# EAGLE library part T13F256C3 (library ICs)
Trion® Field Programmable Gate Array (FPGA) IC 195 744489 12828 256-TFBGA
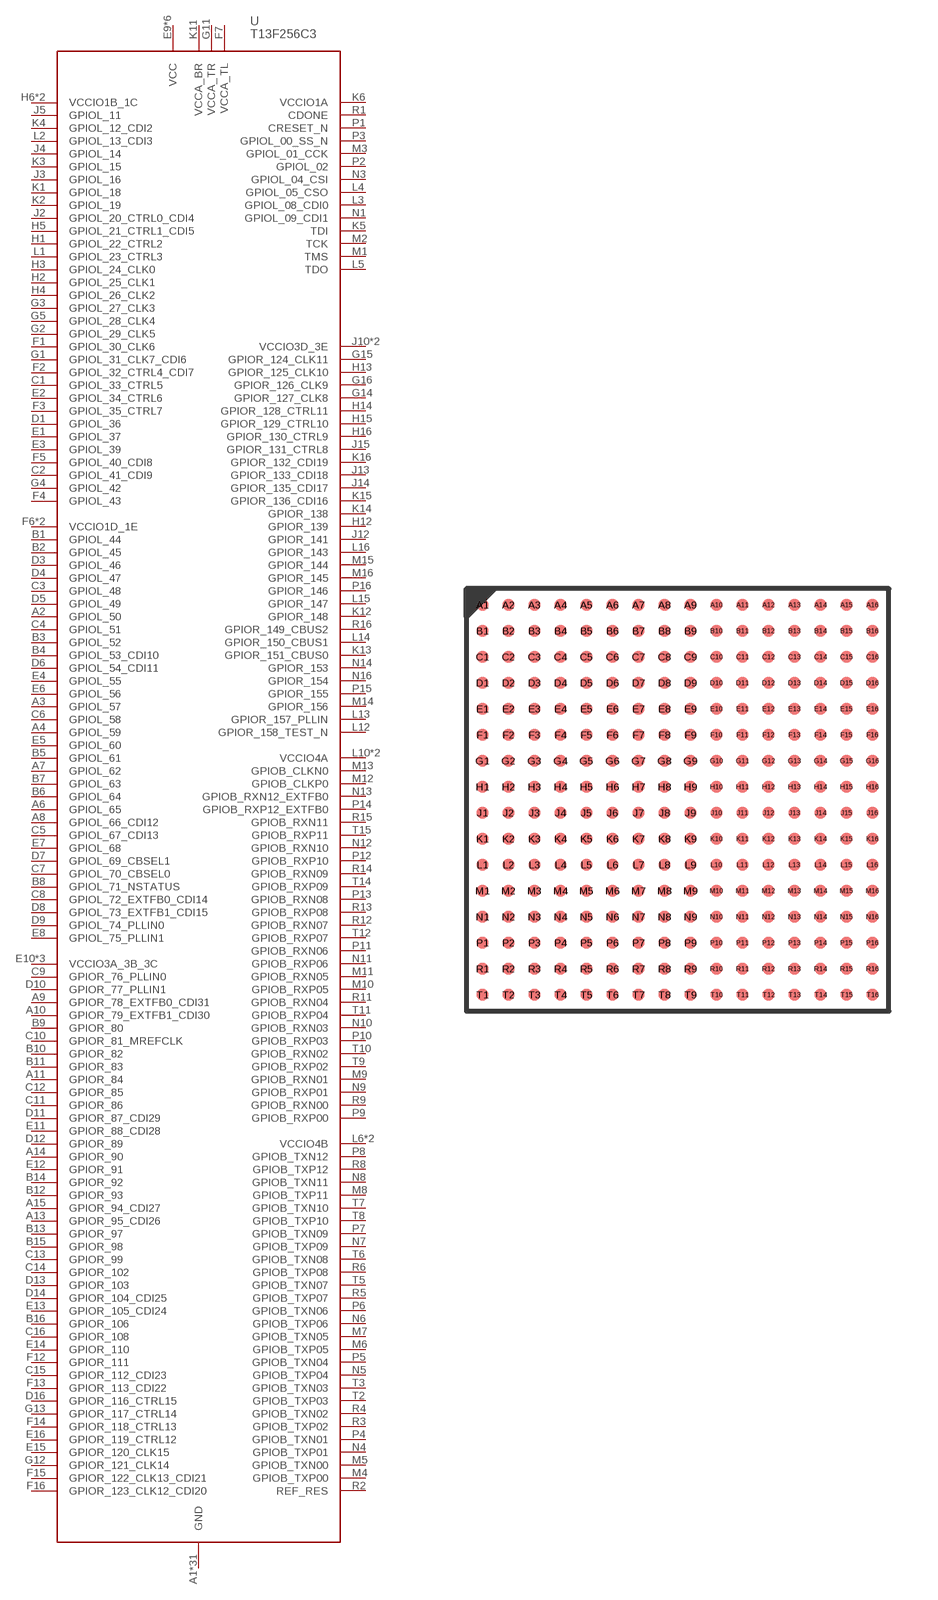
[diagram p323: symbol with the pads of FBGA256; footprint FBGA256]

Designator prefix U

## T13F256C3 (DIGIKEY: 2134-T13F256C3-ND; HEIGHT: 1.2; PRICE_PER: 5.39; VALUE: T13F256C3)  [FBGA256]
A1  GND
A2  GPIOL_50
A3  GPIOL_57
A4  GPIOL_59
A5  GND
A6  GPIOL_65
A7  GPIOL_62
A8  GPIOL_66_CDI12
A9  GPIOR_78_EXTFB0_CDI31
A10  GPIOR_79_EXTFB1_CDI30
A11  GPIOR_84
A12  GND
A13  GPIOR_95_CDI26
A14  GPIOR_90
A15  GPIOR_94_CDI27
A16  GND
B1  GPIOL_44
B2  GPIOL_45
B3  GPIOL_52
B4  GPIOL_53_CDI10
B5  GPIOL_61
B6  GPIOL_64
B7  GPIOL_63
B8  GPIOL_71_NSTATUS
B9  GPIOR_80
B10  GPIOR_82
B11  GPIOR_83
B12  GPIOR_93
B13  GPIOR_97
B14  GPIOR_92
B15  GPIOR_98
B16  GPIOR_106
C1  GPIOL_33_CTRL5
C2  GPIOL_41_CDI9
C3  GPIOL_48
C4  GPIOL_51
C5  GPIOL_67_CDI13
C6  GPIOL_58
C7  GPIOL_70_CBSEL0
C8  GPIOL_72_EXTFB0_CDI14
C9  GPIOR_76_PLLIN0
C10  GPIOR_81_MREFCLK
C11  GPIOR_86
C12  GPIOR_85
C13  GPIOR_99
C14  GPIOR_102
C15  GPIOR_112_CDI23
C16  GPIOR_108
D1  GPIOL_36
D2  GND
D3  GPIOL_46
D4  GPIOL_47
D5  GPIOL_49
D6  GPIOL_54_CDI11
D7  GPIOL_69_CBSEL1
D8  GPIOL_73_EXTFB1_CDI15
D9  GPIOL_74_PLLIN0
D10  GPIOR_77_PLLIN1
D11  GPIOR_87_CDI29
D12  GPIOR_89
D13  GPIOR_103
D14  GPIOR_104_CDI25
D15  GND
D16  GPIOR_116_CTRL15
E1  GPIOL_37
E2  GPIOL_34_CTRL6
E3  GPIOL_39
E4  GPIOL_55
E5  GPIOL_60
E6  GPIOL_56
E7  GPIOL_68
E8  GPIOL_75_PLLIN1
E9  VCC
E10  VCCIO3A_3B_3C
E11  GPIOR_88_CDI28
E12  GPIOR_91
E13  GPIOR_105_CDI24
E14  GPIOR_110
E15  GPIOR_120_CLK15
E16  GPIOR_119_CTRL12
F1  GPIOL_30_CLK6
F2  GPIOL_32_CTRL4_CDI7
F3  GPIOL_35_CTRL7
F4  GPIOL_43
F5  GPIOL_40_CDI8
F6  VCCIO1D_1E
F7  VCCA_TL
F8  VCC
F9  VCC
F10  VCCIO3A_3B_3C
F11  VCCIO3A_3B_3C
F12  GPIOR_111
F13  GPIOR_113_CDI22
F14  GPIOR_118_CTRL13
F15  GPIOR_122_CLK13_CDI21
F16  GPIOR_123_CLK12_CDI20
G1  GPIOL_31_CLK7_CDI6
G2  GPIOL_29_CLK5
G3  GPIOL_27_CLK3
G4  GPIOL_42
G5  GPIOL_28_CLK4
G6  VCCIO1D_1E
G7  GND
G8  GND
G9  GND
G10  GND
G11  VCCA_TR
G12  GPIOR_121_CLK14
G13  GPIOR_117_CTRL14
G14  GPIOR_127_CLK8
G15  GPIOR_124_CLK11
G16  GPIOR_126_CLK9
H1  GPIOL_22_CTRL2
H2  GPIOL_25_CLK1
H3  GPIOL_24_CLK0
H4  GPIOL_26_CLK2
H5  GPIOL_21_CTRL1_CDI5
H6  VCCIO1B_1C
H7  VCCIO1B_1C
H8  GND
H9  GND
H10  GND
H11  GND
H12  GPIOR_139
H13  GPIOR_125_CLK10
H14  GPIOR_128_CTRL11
H15  GPIOR_129_CTRL10
H16  GPIOR_130_CTRL9
J1  GND
J2  GPIOL_20_CTRL0_CDI4
J3  GPIOL_16
J4  GPIOL_14
J5  GPIOL_11
J6  VCC
J7  VCC
J8  GND
J9  GND
J10  VCCIO3D_3E
J11  VCCIO3D_3E
J12  GPIOR_141
J13  GPIOR_133_CDI18
J14  GPIOR_135_CDI17
J15  GPIOR_131_CTRL8
J16  GND
K1  GPIOL_18
K2  GPIOL_19
K3  GPIOL_15
K4  GPIOL_12_CDI2
K5  TDI
K6  VCCIO1A
K7  GND
K8  GND
K9  VCC
K10  GND
K11  VCCA_BR
K12  GPIOR_148
K13  GPIOR_151_CBUS0
K14  GPIOR_138
K15  GPIOR_136_CDI16
K16  GPIOR_132_CDI19
L1  GPIOL_23_CTRL3
L2  GPIOL_13_CDI3
L3  GPIOL_08_CDI0
L4  GPIOL_05_CSO
L5  TDO
L6  VCCIO4B
L7  VCCIO4B
L8  GND
L9  GND
L10  VCCIO4A
L11  VCCIO4A
L12  GPIOR_158_TEST_N
L13  GPIOR_157_PLLIN
L14  GPIOR_150_CBUS1
L15  GPIOR_147
L16  GPIOR_143
M1  TMS
M2  TCK
M3  GPIOL_01_CCK
M4  GPIOB_TXP00
M5  GPIOB_TXN00
M6  GPIOB_TXP05
M7  GPIOB_TXN05
M8  GPIOB_TXP11
M9  GPIOB_RXN01
M10  GPIOB_RXP05
M11  GPIOB_RXN05
M12  GPIOB_CLKP0
M13  GPIOB_CLKN0
M14  GPIOR_156
M15  GPIOR_144
M16  GPIOR_145
N1  GPIOL_09_CDI1
N2  GND
N3  GPIOL_04_CSI
N4  GPIOB_TXP01
N5  GPIOB_TXP04
N6  GPIOB_TXP06
N7  GPIOB_TXP09
N8  GPIOB_TXN11
N9  GPIOB_RXP01
N10  GPIOB_RXN03
N11  GPIOB_RXP06
N12  GPIOB_RXN10
N13  GPIOB_RXN12_EXTFB0
N14  GPIOR_153
N15  GND
N16  GPIOR_154
P1  CRESET_N
P2  GPIOL_02
P3  GPIOL_00_SS_N
P4  GPIOB_TXN01
P5  GPIOB_TXN04
P6  GPIOB_TXN06
P7  GPIOB_TXN09
P8  GPIOB_TXN12
P9  GPIOB_RXP00
P10  GPIOB_RXP03
P11  GPIOB_RXN06
P12  GPIOB_RXP10
P13  GPIOB_RXN08
P14  GPIOB_RXP12_EXTFB0
P15  GPIOR_155
P16  GPIOR_146
R1  CDONE
R2  REF_RES
R3  GPIOB_TXP02
R4  GPIOB_TXN02
R5  GPIOB_TXP07
R6  GPIOB_TXP08
R7  GND
R8  GPIOB_TXP12
R9  GPIOB_RXN00
R10  GND
R11  GPIOB_RXN04
R12  GPIOB_RXN07
R13  GPIOB_RXP08
R14  GPIOB_RXN09
R15  GPIOB_RXN11
R16  GPIOR_149_CBUS2
T1  GND
T2  GPIOB_TXP03
T3  GPIOB_TXN03
T4  GND
T5  GPIOB_TXN07
T6  GPIOB_TXN08
T7  GPIOB_TXN10
T8  GPIOB_TXP10
T9  GPIOB_RXP02
T10  GPIOB_RXN02
T11  GPIOB_RXP04
T12  GPIOB_RXP07
T13  GND
T14  GPIOB_RXP09
T15  GPIOB_RXP11
T16  GND

## Footprint FBGA256 (pad centres in mm)
smd 0.35 x 0.35: A1 -6,6; A2 -5.2,6; A3 -4.4,6; A4 -3.6,6; A5 -2.8,6; A6 -2,6; A7 -1.2,6; A8 -0.4,6; A9 0.4,6; A10 1.2,6; A11 2,6; A12 2.8,6; A13 3.6,6; A14 4.4,6; A15 5.2,6; A16 6,6; B1 -6,5.2; B2 -5.2,5.2; B3 -4.4,5.2; B4 -3.6,5.2; B5 -2.8,5.2; B6 -2,5.2; B7 -1.2,5.2; B8 -0.4,5.2; B9 0.4,5.2; B10 1.2,5.2; B11 2,5.2; B12 2.8,5.2; B13 3.6,5.2; B14 4.4,5.2; B15 5.2,5.2; B16 6,5.2; C1 -6,4.4; C2 -5.2,4.4; C3 -4.4,4.4; C4 -3.6,4.4; C5 -2.8,4.4; C6 -2,4.4; C7 -1.2,4.4; C8 -0.4,4.4; C9 0.4,4.4; C10 1.2,4.4; C11 2,4.4; C12 2.8,4.4; C13 3.6,4.4; C14 4.4,4.4; C15 5.2,4.4; C16 6,4.4; D1 -6,3.6; D2 -5.2,3.6; D3 -4.4,3.6; D4 -3.6,3.6; D5 -2.8,3.6; D6 -2,3.6; D7 -1.2,3.6; D8 -0.4,3.6; D9 0.4,3.6; D10 1.2,3.6; D11 2,3.6; D12 2.8,3.6; D13 3.6,3.6; D14 4.4,3.6; D15 5.2,3.6; D16 6,3.6; E1 -6,2.8; E2 -5.2,2.8; E3 -4.4,2.8; E4 -3.6,2.8; E5 -2.8,2.8; E6 -2,2.8; E7 -1.2,2.8; E8 -0.4,2.8; E9 0.4,2.8; E10 1.2,2.8; E11 2,2.8; E12 2.8,2.8; E13 3.6,2.8; E14 4.4,2.8; E15 5.2,2.8; E16 6,2.8; F1 -6,2; F2 -5.2,2; F3 -4.4,2; F4 -3.6,2; F5 -2.8,2; F6 -2,2; F7 -1.2,2; F8 -0.4,2; F9 0.4,2; F10 1.2,2; F11 2,2; F12 2.8,2; F13 3.6,2; F14 4.4,2; F15 5.2,2; F16 6,2; G1 -6,1.2; G2 -5.2,1.2; G3 -4.4,1.2; G4 -3.6,1.2; G5 -2.8,1.2; G6 -2,1.2; G7 -1.2,1.2; G8 -0.4,1.2; G9 0.4,1.2; G10 1.2,1.2; G11 2,1.2; G12 2.8,1.2; G13 3.6,1.2; G14 4.4,1.2; G15 5.2,1.2; G16 6,1.2; H1 -6,0.4; H2 -5.2,0.4; H3 -4.4,0.4; H4 -3.6,0.4; H5 -2.8,0.4; H6 -2,0.4; H7 -1.2,0.4; H8 -0.4,0.4; H9 0.4,0.4; H10 1.2,0.4; H11 2,0.4; H12 2.8,0.4; H13 3.6,0.4; H14 4.4,0.4; H15 5.2,0.4; H16 6,0.4; J1 -6,-0.4; J2 -5.2,-0.4; J3 -4.4,-0.4; J4 -3.6,-0.4; J5 -2.8,-0.4; J6 -2,-0.4; J7 -1.2,-0.4; J8 -0.4,-0.4; J9 0.4,-0.4; J10 1.2,-0.4; J11 2,-0.4; J12 2.8,-0.4; J13 3.6,-0.4; J14 4.4,-0.4; J15 5.2,-0.4; J16 6,-0.4; K1 -6,-1.2; K2 -5.2,-1.2; K3 -4.4,-1.2; K4 -3.6,-1.2; K5 -2.8,-1.2; K6 -2,-1.2; K7 -1.2,-1.2; K8 -0.4,-1.2; K9 0.4,-1.2; K10 1.2,-1.2; K11 2,-1.2; K12 2.8,-1.2; K13 3.6,-1.2; K14 4.4,-1.2; K15 5.2,-1.2; K16 6,-1.2; L1 -6,-2; L2 -5.2,-2; L3 -4.4,-2; L4 -3.6,-2; L5 -2.8,-2; L6 -2,-2; L7 -1.2,-2; L8 -0.4,-2; L9 0.4,-2; L10 1.2,-2; L11 2,-2; L12 2.8,-2; L13 3.6,-2; L14 4.4,-2; L15 5.2,-2; L16 6,-2; M1 -6,-2.8; M2 -5.2,-2.8; M3 -4.4,-2.8; M4 -3.6,-2.8; M5 -2.8,-2.8; M6 -2,-2.8; M7 -1.2,-2.8; M8 -0.4,-2.8; M9 0.4,-2.8; M10 1.2,-2.8; M11 2,-2.8; M12 2.8,-2.8; M13 3.6,-2.8; M14 4.4,-2.8; M15 5.2,-2.8; M16 6,-2.8; N1 -6,-3.6; N2 -5.2,-3.6; N3 -4.4,-3.6; N4 -3.6,-3.6; N5 -2.8,-3.6; N6 -2,-3.6; N7 -1.2,-3.6; N8 -0.4,-3.6; N9 0.4,-3.6; N10 1.2,-3.6; N11 2,-3.6; N12 2.8,-3.6; N13 3.6,-3.6; N14 4.4,-3.6; N15 5.2,-3.6; N16 6,-3.6; P1 -6,-4.4; P2 -5.2,-4.4; P3 -4.4,-4.4; P4 -3.6,-4.4; P5 -2.8,-4.4; P6 -2,-4.4; P7 -1.2,-4.4; P8 -0.4,-4.4; P9 0.4,-4.4; P10 1.2,-4.4; P11 2,-4.4; P12 2.8,-4.4; P13 3.6,-4.4; P14 4.4,-4.4; P15 5.2,-4.4; P16 6,-4.4; R1 -6,-5.2; R2 -5.2,-5.2; R3 -4.4,-5.2; R4 -3.6,-5.2; R5 -2.8,-5.2; R6 -2,-5.2; R7 -1.2,-5.2; R8 -0.4,-5.2; R9 0.4,-5.2; R10 1.2,-5.2; R11 2,-5.2; R12 2.8,-5.2; R13 3.6,-5.2; R14 4.4,-5.2; R15 5.2,-5.2; R16 6,-5.2; T1 -6,-6; T2 -5.2,-6; T3 -4.4,-6; T4 -3.6,-6; T5 -2.8,-6; T6 -2,-6; T7 -1.2,-6; T8 -0.4,-6; T9 0.4,-6; T10 1.2,-6; T11 2,-6; T12 2.8,-6; T13 3.6,-6; T14 4.4,-6; T15 5.2,-6; T16 6,-6